# Altium schematic symbol library ATML-ATSAM3X-LFBGA-144.SchLib: 1 symbol
Pins are listed as number, name and electrical type; pins without a type are passive.

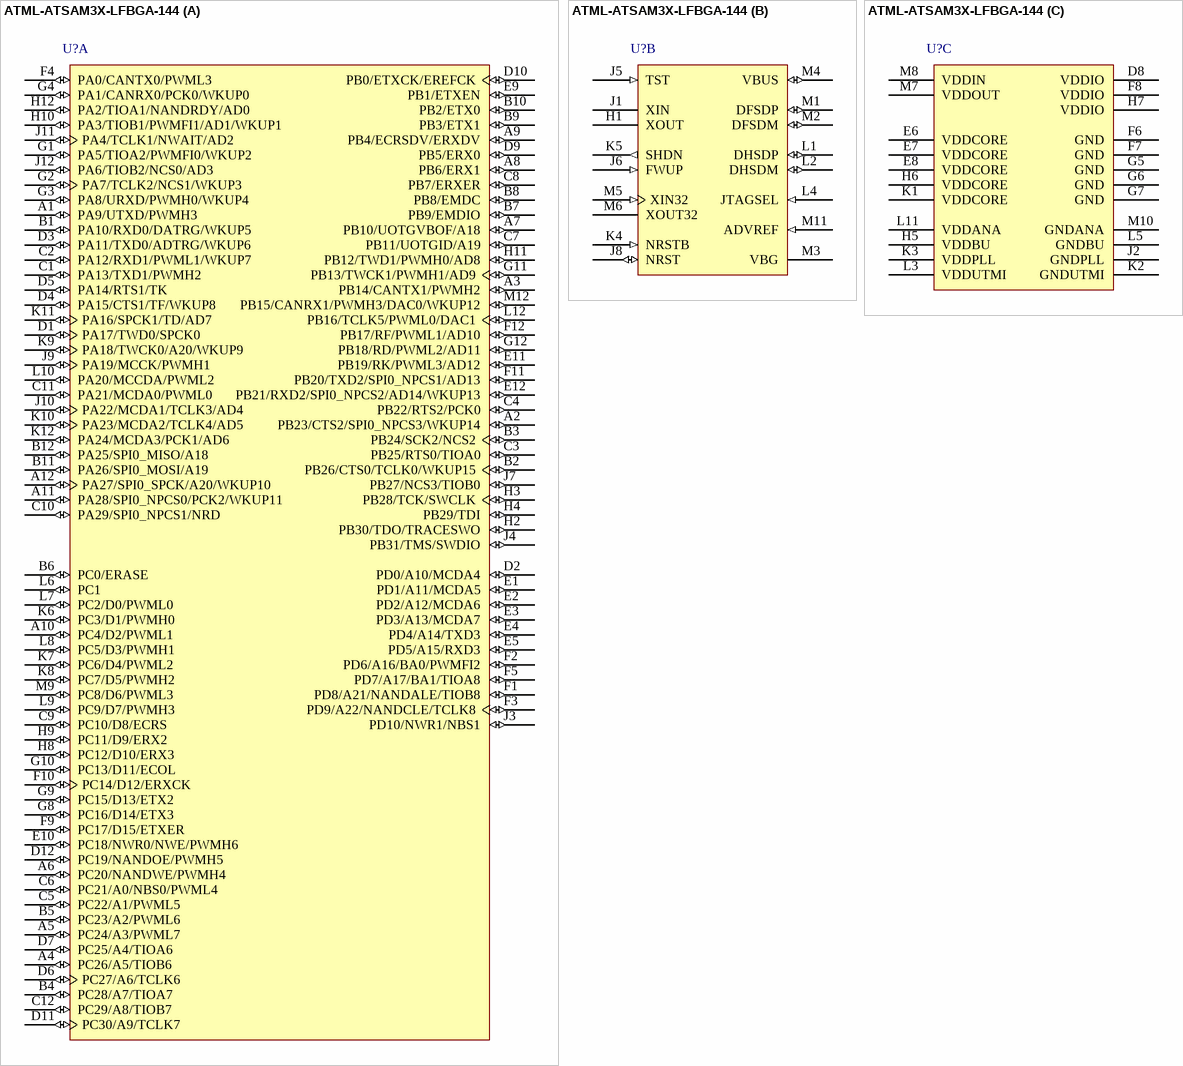
[diagram p0: symbol ATML-ATSAM3X-LFBGA-144]

## ATML-ATSAM3X-LFBGA-144
designator U?
part A pins: A1 PA9/UTXD/PWMH3 (io), A2 PB23/CTS2/SPI0_NPCS3/WKUP14 (io), A3 PB14/CANTX1/PWMH2 (io), A4 PC26/A5/TIOB6 (io), A5 PC24/A3/PWML7 (io), A6 PC20/NANDWE/PWMH4 (io), A7 PB10/UOTGVBOF/A18 (io), A8 PB6/ERX1 (io), A9 PB4/ECRSDV/ERXDV (io), A10 PC4/D2/PWML1 (io), A11 PA28/SPI0_NPCS0/PCK2/WKUP11 (io), A12 PA27/SPI0_SPCK/A20/WKUP10 (io), B1 PA10/RXD0/DATRG/WKUP5 (io), B2 PB26/CTS0/TCLK0/WKUP15 (io), B3 PB24/SCK2/NCS2 (io), B4 PC28/A7/TIOA7 (io), B5 PC23/A2/PWML6 (io), B6 PC0/ERASE (io), B7 PB9/EMDIO (io), B8 PB8/EMDC (io), B9 PB3/ETX1 (io), B10 PB2/ETX0 (io), B11 PA26/SPI0_MOSI/A19 (io), B12 PA25/SPI0_MISO/A18 (io), C1 PA13/TXD1/PWMH2 (io), C2 PA12/RXD1/PWML1/WKUP7 (io), C3 PB25/RTS0/TIOA0 (io), C4 PB22/RTS2/PCK0 (io), C5 PC22/A1/PWML5 (io), C6 PC21/A0/NBS0/PWML4 (io), C7 PB11/UOTGID/A19 (io), C8 PB7/ERXER (io), C9 PC10/D8/ECRS (io), C10 PA29/SPI0_NPCS1/NRD (io), C11 PA21/MCDA0/PWML0 (io), C12 PC29/A8/TIOB7 (io), D1 PA17/TWD0/SPCK0 (io), D2 PD0/A10/MCDA4 (io), D3 PA11/TXD0/ADTRG/WKUP6 (io), D4 PA15/CTS1/TF/WKUP8 (io), D5 PA14/RTS1/TK (io), D6 PC27/A6/TCLK6 (io), D7 PC25/A4/TIOA6 (io), D9 PB5/ERX0 (io), D10 PB0/ETXCK/EREFCK (io), D11 PC30/A9/TCLK7 (io), D12 PC19/NANDOE/PWMH5 (io), E1 PD1/A11/MCDA5 (io), E2 PD2/A12/MCDA6 (io), E3 PD3/A13/MCDA7 (io), E4 PD4/A14/TXD3 (io), E5 PD5/A15/RXD3 (io), E9 PB1/ETXEN (io), E10 PC18/NWR0/NWE/PWMH6 (io), E11 PB19/RK/PWML3/AD12 (io), E12 PB21/RXD2/SPI0_NPCS2/AD14/WKUP13 (io), F1 PD8/A21/NANDALE/TIOB8 (io), F2 PD6/A16/BA0/PWMFI2 (io), F3 PD9/A22/NANDCLE/TCLK8 (io), F4 PA0/CANTX0/PWML3 (io), F5 PD7/A17/BA1/TIOA8 (io), F9 PC17/D15/ETXER (io), F10 PC14/D12/ERXCK (io), F11 PB20/TXD2/SPI0_NPCS1/AD13 (io), F12 PB17/RF/PWML1/AD10 (io), G1 PA5/TIOA2/PWMFI0/WKUP2 (io), G2 PA7/TCLK2/NCS1/WKUP3 (io), G3 PA8/URXD/PWMH0/WKUP4 (io), G4 PA1/CANRX0/PCK0/WKUP0 (io), G8 PC16/D14/ETX3 (io), G9 PC15/D13/ETX2 (io), G10 PC13/D11/ECOL (io), G11 PB13/TWCK1/PWMH1/AD9 (io), G12 PB18/RD/PWML2/AD11 (io), H2 PB30/TDO/TRACESWO (io), H3 PB28/TCK/SWCLK (io), H4 PB29/TDI (io), H8 PC12/D10/ERX3 (io), H9 PC11/D9/ERX2 (io), H10 PA3/TIOB1/PWMFI1/AD1/WKUP1 (io), H11 PB12/TWD1/PWMH0/AD8 (io), H12 PA2/TIOA1/NANDRDY/AD0 (io), J3 PD10/NWR1/NBS1 (io), J4 PB31/TMS/SWDIO (io), J7 PB27/NCS3/TIOB0 (io), J9 PA19/MCCK/PWMH1 (io), J10 PA22/MCDA1/TCLK3/AD4 (io), J11 PA4/TCLK1/NWAIT/AD2 (io), J12 PA6/TIOB2/NCS0/AD3 (io), K6 PC3/D1/PWMH0 (io), K7 PC6/D4/PWML2 (io), K8 PC7/D5/PWMH2 (io), K9 PA18/TWCK0/A20/WKUP9 (io), K10 PA23/MCDA2/TCLK4/AD5 (io), K11 PA16/SPCK1/TD/AD7 (io), K12 PA24/MCDA3/PCK1/AD6 (io), L6 PC1 (io), L7 PC2/D0/PWML0 (io), L8 PC5/D3/PWMH1 (io), L9 PC9/D7/PWMH3 (io), L10 PA20/MCCDA/PWML2 (io), L12 PB16/TCLK5/PWML0/DAC1 (io), M9 PC8/D6/PWML3 (io), M12 PB15/CANRX1/PWMH3/DAC0/WKUP12 (io)
part B pins: H1 XOUT "Main Oscillator Output", J1 XIN "Main Oscillator Input", J5 TST (in) "Test Mode Select", J6 FWUP (in) "Force Wake-up Input", J8 NRST (io) "Microcontroller Reset", K4 NRSTB (in) "Asynchronous Microcontroller Reset", K5 SHDN (out) "Shut-Down Control", L1 DHSDP (io) "USB High Speed Data +", L2 DHSDM (io) "USB High Speed Data -", L4 JTAGSEL (in) "JTAG Selection", M1 DFSDP (io) "USB Full Speed Data +", M2 DFSDM (io) "USB Full Speed Data -", M3 VBG "Bias Voltage Reference", M4 VBUS (io) "USB Bus Power Measurement Mini Host/Device", M5 XIN32 (in) "Slow Clock Oscillator Input", M6 XOUT32 "Slow Clock Oscillator Output", M11 ADVREF (in) "ADC and DAC Reference"
part C pins: D8 VDDIO (power) "Peripherals I/O Lines Power Supply", E6 VDDCORE (power) "Core Chip Power Supply", E7 VDDCORE (power) "Core Chip Power Supply", E8 VDDCORE (power) "Core Chip Power Supply", F6 GND (power) "Ground", F7 GND (power) "Ground", F8 VDDIO (power) "Peripherals I/O Lines Power Supply", G5 GND (power) "Ground", G6 GND (power) "Ground", G7 GND (power) "Ground", H5 VDDBU (power) "Backup I/O Lines Power Supply", H6 VDDCORE (power) "Core Chip Power Supply", H7 VDDIO (power) "Peripherals I/O Lines Power Supply", J2 GNDPLL (power) "PLL A, UPLL and Oscillator Ground", K1 VDDCORE (power) "Core Chip Power Supply", K2 GNDUTMI (power) "USB UTMI+ Interface Ground", K3 VDDPLL (power) "PLL A, UPLL and Oscillator Power Supply", L3 VDDUTMI (power) "USB UTMI+ Interface Power Supply", L5 GNDBU (power) "Backup Ground", L11 VDDANA (power) "ADC and DAC Analog Power Supply", M7 VDDOUT (power) "Voltage Regulator Output", M8 VDDIN (power) "Voltage Regulator, ADC and DAC Power", M10 GNDANA (power) "ADC and DAC Analog Ground"